# Altium footprint library Chip Resistor - Surface Mount.PcbLib: 1 footprints
Each footprint in its own frame and in the unit in brackets; x right, y up, seen from the top. Pads: shape width x height; smd on the part's side, far side on the other; paste and mask are expansions set on the pad; w line width, h text height; cw(c..) or ccw(c..) is an arc to the next point about the centre after c.
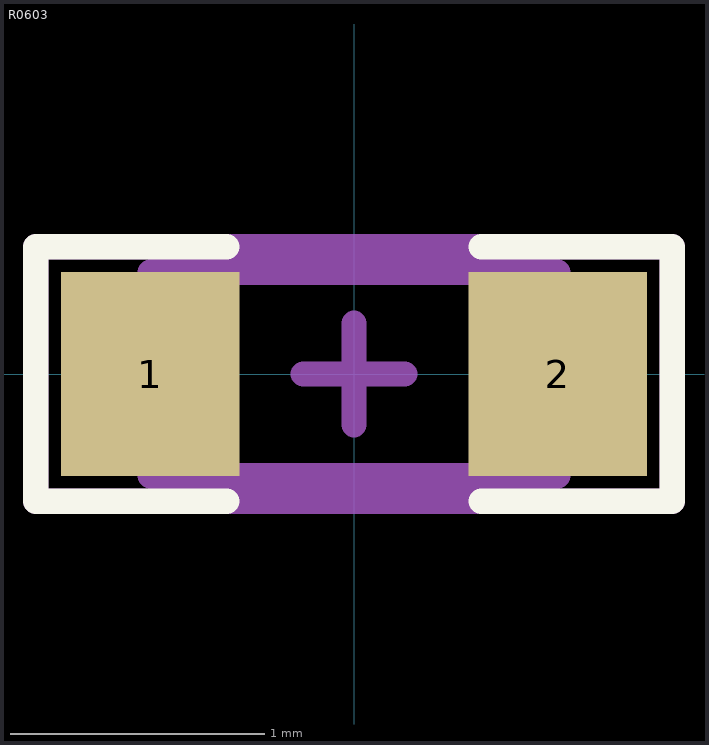
[diagram p0: the footprint, top view; thin cyan lines are the x and y axes]

## R0603 [mm] "Surface Mount Resıstor"
pads (2):
  rect 0.7x0.8 smd mask+0.05: 1(-0.8,0) 2(0.8,0)
Top Overlay:
  lines w0.1: -0.5,-0.5 -1.25,-0.5 ; -0.5,0.5 -1.25,0.5 -1.25,-0.5 ; 0.5,-0.5 1.25,-0.5 1.25,0.5 ; 0.5,0.5 1.25,0.5 ; -1.25,-0.5 -1.25,-0.5 ; -1.25,-0.5 -1.25,-0.5 ; 1.25,0.5 1.25,0.5 ; 1.25,0.5 1.25,0.5
Top 3D Body:
  lines w0.1: -0.8,-0.4 0.8,-0.4 0.8,0.4 -0.8,0.4 -0.8,-0.4
Top Component Center:
  lines w0.1: -0.2,0 0.2,0 ; 0,-0.2 0,0.2 ; -1.25,-0.5 -1.25,0.5 1.25,0.5 1.25,-0.5 -1.25,-0.5
Top Designator:
  lines w0.1: -1.25,-0.5 -1.25,0.5 1.25,0.5 1.25,-0.5 -1.25,-0.5
  text ".Designator" at -0.963,-0.216 h0.5
3D body "CRG0603J10K.STEP": height 0.55, standoff 0, extent -0.8,-0.4 0.8,0.4